# Altium schematic symbol library Schlib.SchLib: 8 symbols
Pins are listed as number, name and electrical type; pins without a type are passive.

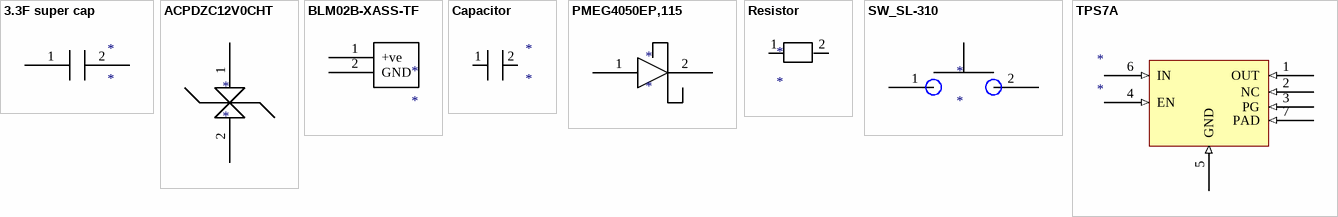
[diagram p0: symbols 3.3F super cap to TPS7A]

## 3.3F super cap
designator *
footprint 3.3F super cap
pins: 1, 2

## ACPDZC12V0CHT
designator *
footprint ACPDZC TVS diode
pins: 1, 2

## BLM02B-XASS-TF
designator *
footprint BM02B-XASS-TF
pins: 1 +ve, 2 GND

## Capacitor
designator *
footprint 3.3F super cap
pins: 1, 2

## PMEG4050EP,115
designator *
footprint PMEG4050 Schottky
pins: 1, 2

## Resistor
designator *
pins: 1, 2

## SW_SL-310
designator *
footprint SW_SL-310
pins: 1, 2

## TPS7A
designator *
footprint TPS7A
pins: 1 OUT (in), 2 NC (in), 3 PG (in), 4 EN (in), 5 GND (in), 6 IN (in), 7 PAD (in)